# Altium footprint library pengyulib.PcbLib: 14 footprints
Each footprint in its own frame and in the unit in brackets; x right, y up, seen from the top. Pads: shape width x height; smd on the part's side, far side on the other; paste and mask are expansions set on the pad; w line width, h text height; cw(c..) or ccw(c..) is an arc to the next point about the centre after c.
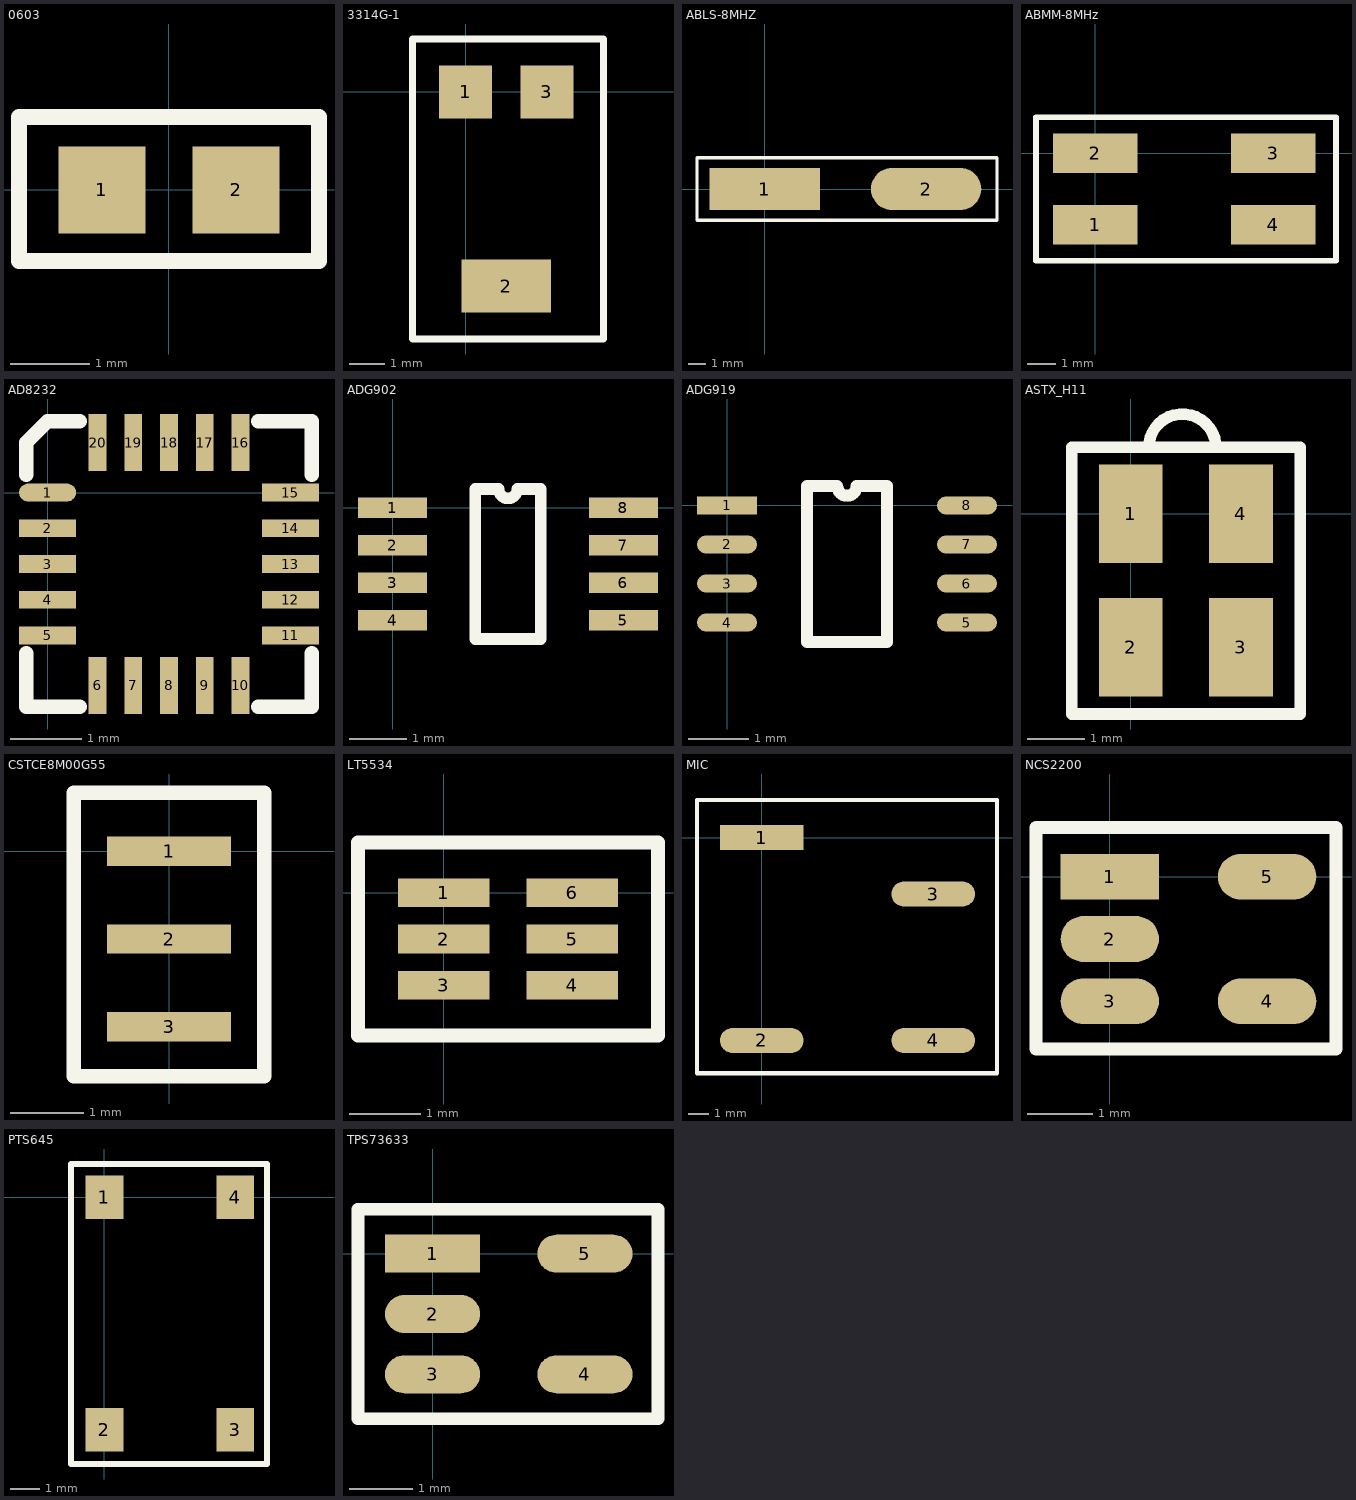
[diagram p0: the footprints below, top view; thin cyan lines are the x and y axes]

## 0603 [mm] "Surface Mount; Body 1.6 x 0.8 mm (LxW typ)"
height 0.8
pads (2):
  rect 1.1x1.1 smd: 1(-0.85,0) 2(0.85,0)
Top Overlay:
  lines w0.2: -1.9,-0.9 -1.9,0.925 1.9,0.925 1.9,-0.9 -1.875,-0.9

## 3314G-1 [mm]
pads (3):
  rect 1.5x1.5 smd: 1(0,0) 3(2.3,0)
  rect 2.541x1.5 smd: 2(1.15,-5.5)
Top Overlay:
  lines w0.2: -1.5,-7 3.9,-7 3.9,1.5 -1.5,1.5 -1.5,-7

## ABLS-8MHZ [mm]
pads (2):
  rect 6.5x2.5 smd: 1(0,0)
  oval 6.5x2.5 smd: 2(9.5,0)
Top Overlay:
  lines w0.2: -4,-1.85 -4,1.85 13.675,1.85 13.675,-1.85 -4,-1.85

## ABMM-8MHz [mm]
pads (4):
  rect 3x1.4 smd: 1(0,-2.54) 2(0,0) 3(6.3,0) 4(6.3,-2.54)
Top Overlay:
  lines w0.2: -2.1,-3.81 8.525,-3.81 8.525,1.27 -2.1,1.27 -2.1,-3.81

## AD8232 [mm]
pads (20):
  oval 0.8x0.25 smd: 1(0,0)
  rect 0.8x0.25 smd: 2(0,-0.5) 3(0,-1) 4(0,-1.5) 5(0,-2) 11(3.4,-2) 12(3.4,-1.5) 13(3.4,-1) 14(3.4,-0.5) 15(3.4,0)
  rect 0.25x0.8 smd: 6(0.7,-2.7) 7(1.2,-2.7) 8(1.7,-2.7) 9(2.2,-2.7) 10(2.7,-2.7) 16(2.7,0.7) 17(2.2,0.7) 18(1.7,0.7) 19(1.2,0.7) 20(0.7,0.7)
Top Overlay:
  lines w0.2: -0.3,-2.25 -0.3,-3 0.45,-3 ; -0.3,0.25 -0.3,0.7 0,1 0.45,1 ; 2.95,-3 3.7,-3 3.7,-2.25 ; 2.95,1 3.7,1 3.7,0.25

## ADG902 [mm]
pads (8):
  rect 1.2x0.35 smd: 1(0,0) 2(0,-0.65) 3(0,-1.3) 4(0,-1.95) 5(4,-1.95) 6(4,-1.3) 7(4,-0.65) 8(4,0)
Top Overlay:
  lines w0.2: 1.435,-2.275 2.565,-2.275 2.565,0.325 2.162,0.325 cw(c2,0.325) 1.837,0.325 1.435,0.325 1.435,-2.275

## ADG919 [mm]
pads (8):
  rect 1x0.3 smd: 1(0,0)
  oval 1x0.3 smd: 2(0,-0.65) 3(0,-1.3) 4(0,-1.95) 5(4,-1.95) 6(4,-1.3) 7(4,-0.65) 8(4,0)
Top Overlay:
  lines w0.2: 1.335,-2.275 2.665,-2.275 2.665,0.325 2.162,0.325 cw(c2,0.325) 1.837,0.325 1.335,0.325 1.335,-2.275

## ASTX_H11 [mm]
pads (4):
  rect 1.1x1.7 smd: 1(0,0) 2(0,-2.3) 3(1.9,-2.3) 4(1.9,0)
Top Overlay:
  lines w0.2: 0.314,1.214 cw(c0.889,1.143) 1.464,1.214 ; 0.375,1.15 2.921,1.15 2.921,-3.45 -1.016,-3.45 -1.016,1.15 1.525,1.15

## CSTCE8M00G55 [mm]
pads (3):
  rect 1.7x0.4 smd: 1(0,0) 2(0,-1.2) 3(0,-2.4)
Top Overlay:
  lines w0.2: -1.3,-3.075 -1.3,0.8 1.3,0.8 1.3,-3.075 -1.3,-3.075

## LT5534 [mm]
pads (6):
  rect 1.279x0.4 smd: 1(0,0) 2(0,-0.65) 3(0,-1.3) 4(1.8,-1.3) 5(1.8,-0.65) 6(1.8,0)
Top Overlay:
  lines w0.2: -1.2,-2 3,-2 3,0.7 -1.2,0.7 -1.2,-2

## MIC [mm]
pads (4):
  rect 4x1.2 smd: 1(0,0)
  oval 4x1.2 smd: 2(0,-9.7) 3(8.2,-2.7) 4(8.2,-9.7)
Top Overlay:
  lines w0.2: -3.1,-11.275 -3.1,1.8 11.25,1.8 11.25,-11.275 -3.1,-11.275

## NCS2200 [mm]
pads (5):
  rect 1.5x0.7 smd: 1(0,0)
  oval 1.5x0.7 smd: 2(0,-0.95) 3(0,-1.9) 4(2.4,-1.9) 5(2.4,0)
Top Overlay:
  lines w0.2: -1.125,-2.625 -1.125,0.75 3.45,0.75 3.45,-2.625 -1.125,-2.625

## PTS645 [mm]
pads (4):
  rect 1.3x1.5 smd: 1(0,0) 2(0,-8) 3(4.5,-8) 4(4.5,0)
Top Overlay:
  lines w0.2: -1.143,-9.175 5.588,-9.175 5.588,1.143 3.905,1.143 0.54,1.143 -1.143,1.143 -1.143,-9.175

## TPS73633 [mm]
pads (5):
  rect 1.5x0.6 smd: 1(0,0)
  oval 1.5x0.6 smd: 2(0,-0.95) 3(0,-1.9) 4(2.4,-1.9) 5(2.4,0)
Top Overlay:
  lines w0.2: -1.175,-2.6 -1.175,0.7 3.55,0.7 3.55,-2.6 -1.175,-2.6